# Altium footprint library Lib.PcbLib: 35 footprints (part 1 of 3)
Each footprint in its own frame and in the unit in brackets; x right, y up, seen from the top. Pads: shape width x height; smd on the part's side, far side on the other; paste and mask are expansions set on the pad; w line width, h text height; cw(c..) or ccw(c..) is an arc to the next point about the centre after c.
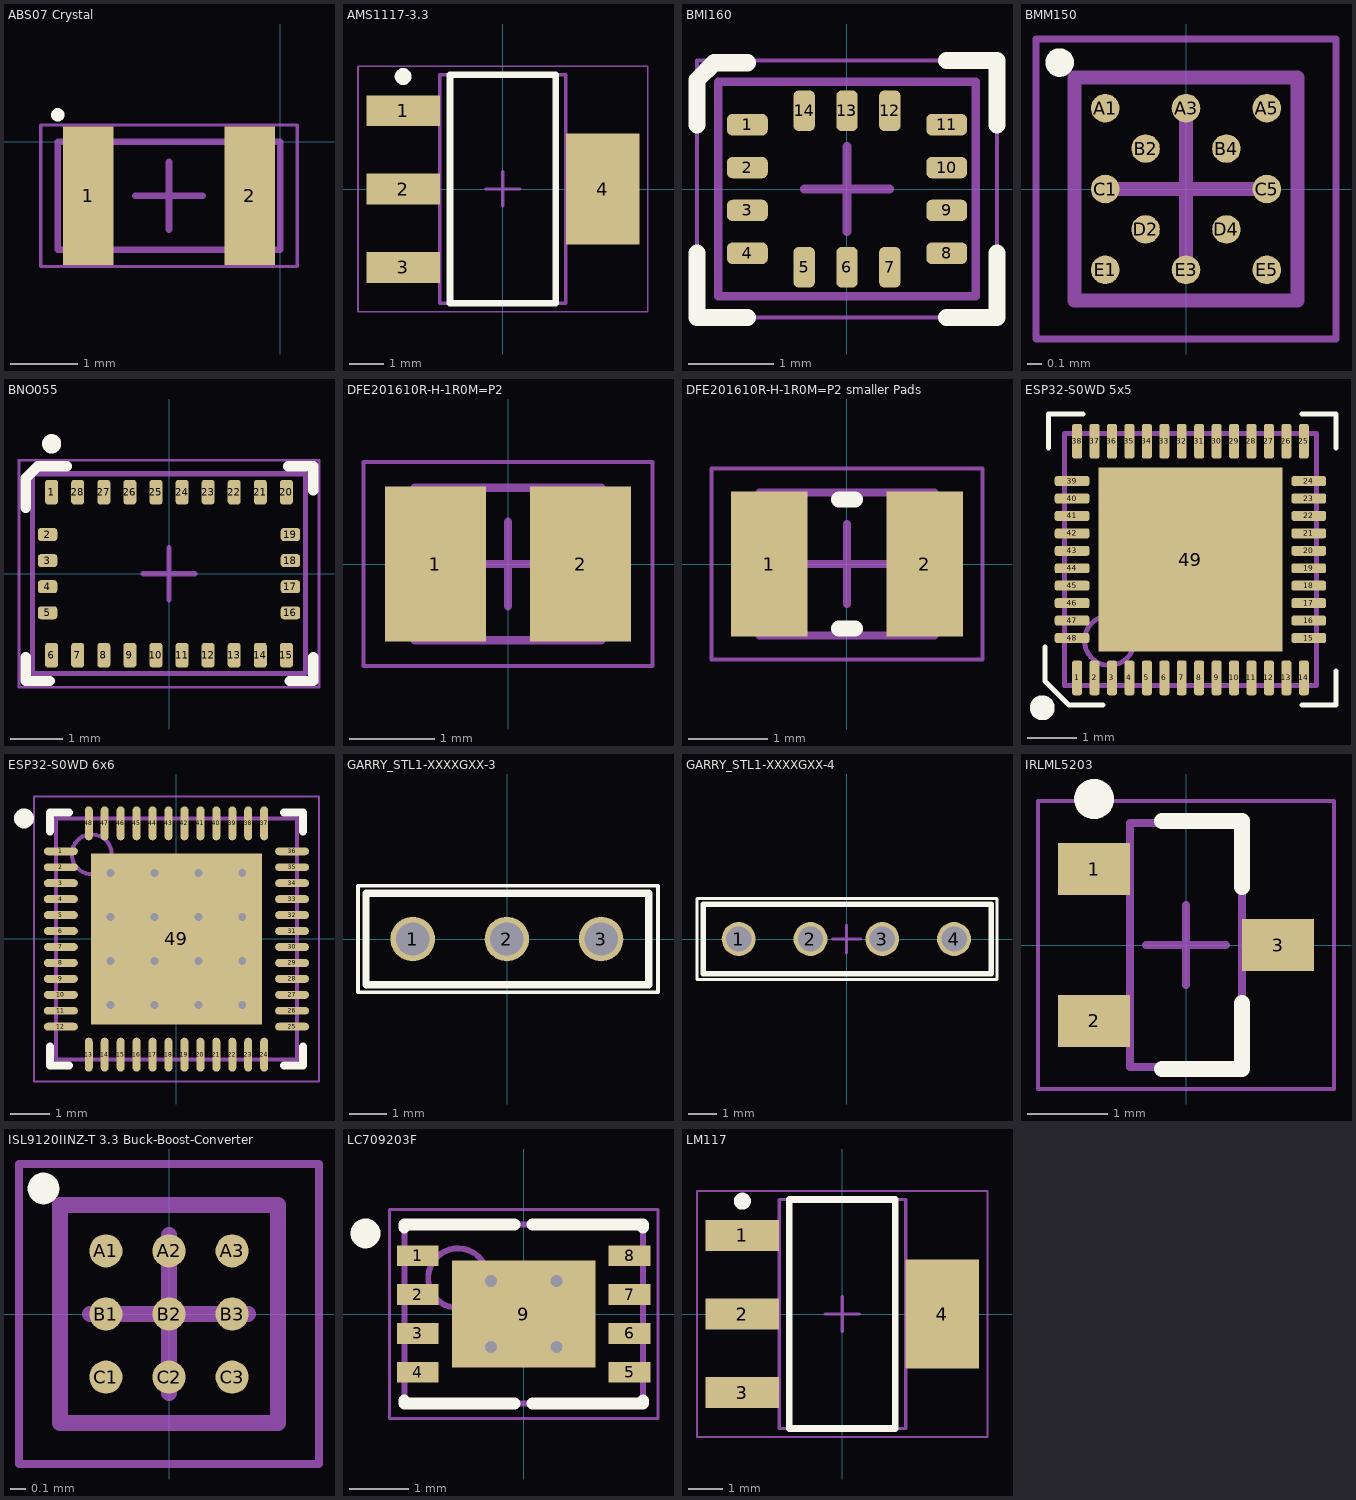
[diagram p0: the footprints below, top view; thin cyan lines are the x and y axes]

## ABS07 Crystal [mm] "32.768kHz SMD LOW PROFILE CRYSTA"
height 0.9
pads (2):
  rect 0.75x2.05 smd: 1(-2.85,-0.8) 2(-0.45,-0.8)
Top Overlay:
  circle w0.1: c-3.3,0.4 r0.05
Mechanical 13:
  lines w0.1: -3.3,-1.6 -3.3,0 0,0 0,-1.6 -3.3,-1.6
Mechanical 15:
  lines w0.05: -3.55,-1.85 -3.55,0.25 0.25,0.25 0.25,-1.85 -3.55,-1.85
  lines w0.1: -2.15,-0.8 -1.15,-0.8 ; -1.65,-1.3 -1.65,-0.3
3D body: height 0.9, standoff 0, extent -3.3,-1.6 0,0

## AMS1117-3.3 [mm] "SOT223, 4-Leads, Body 6,50x7,00mm (avg), Pitch 2,30mm, IPC Medium Density"
height 1.8
pads (4):
  rect 2.15x0.9 smd: 1(-2.925,2.3) 2(-2.925,0) 3(-2.925,-2.3)
  rect 2.15x3.25 smd: 4(2.925,0)
Top Overlay:
  circle w0.25: c-2.925,3.3 r0.125
  lines w0.2: -1.55,-3.35 1.55,-3.35 1.55,3.35 -1.55,3.35 -1.55,-3.35
Mechanical 13:
  lines w0.1: -1.85,-3.35 1.85,-3.35 1.85,3.35 -1.85,3.35 -1.85,-3.35
Mechanical 15:
  lines w0.05: -4.25,-3.6 4.25,-3.6 4.25,3.6 -4.25,3.6 -4.25,-3.6
  lines w0.1: -0.5,0 0.5,0 ; 0,-0.5 0,0.5
3D body: height 1.8, standoff 0.02, extent -1.85,-3.35 1.85,3.35

## BMI160 [mm] "LGA, 14-Leads, Body 3,00x2,50mmx0,83mm, Pitch 0,50mm"
height 0.83
pads (14):
  rrect50% 0.475x0.25 smd: 1(-1.162,0.75) 2(-1.162,0.25) 3(-1.162,-0.25) 4(-1.162,-0.75) 8(1.162,-0.75) 9(1.162,-0.25) 10(1.162,0.25) 11(1.162,0.75)
  rrect50% 0.25x0.475 smd: 5(-0.5,-0.913) 6(0,-0.913) 7(0.5,-0.913) 12(0.5,0.913) 13(0,0.913) 14(-0.5,0.913)
Top Overlay:
  lines w0.2: -1.75,-0.75 -1.75,-1.5 -1.162,-1.5 ; -1.75,0.75 -1.75,1.067 -1.75,1.25 -1.75,1.273 -1.549,1.473 -1.162,1.473 ; 1.162,-1.5 1.75,-1.5 1.75,-0.75 ; 1.162,1.5 1.75,1.5 1.75,0.75
Mechanical 13:
  lines w0.1: -1.5,-1.25 1.5,-1.25 1.5,1.25 -1.5,1.25 -1.5,-1.25
Mechanical 15:
  lines w0.05: -1.75,-1.5 1.75,-1.5 1.75,1.5 -1.75,1.5 -1.75,-1.5
  lines w0.1: -0.5,0 0.5,0 ; 0,-0.5 0,0.5
3D body: height 0.83, standoff 0.13, extent -1.5,-1.25 1.5,1.25

## BMM150 [mm] "Geomagnetic Sensor, BGA, 25-Leads, Body 1,56x1,56mmx0,60mm, Pitch 0,28mm"
height 0.6
pads (12):
  round 0.2 smd: A1(-0.566,0.566) A3(0,0.566) A5(0.566,0.566) B2(-0.283,0.283) B4(0.283,0.283) C1(-0.566,0) C5(0.566,0) D2(-0.283,-0.283) D4(0.283,-0.283) E1(-0.566,-0.566) E3(0,-0.566) E5(0.566,-0.566)
Top Overlay:
  circle w0.1: c-0.885,0.885 r0.05
Mechanical 13:
  lines w0.1: -0.78,-0.78 0.78,-0.78 0.78,0.78 -0.78,0.78 -0.78,-0.78
Mechanical 15:
  lines w0.05: -1.05,-1.05 1.05,-1.05 1.05,1.05 -1.05,1.05 -1.05,-1.05
  lines w0.1: -0.5,0 0.5,0 ; 0,-0.5 0,0.5
3D body: height 0.6, standoff 0.2, extent -0.78,-0.78 0.78,0.78

## BNO055 [mm] "LGA, 28-Leads, Body 5,22x3,83mmx1,18mm, Pitch 0,50mm"
height 1.18
pads (28):
  rrect50% 0.25x0.475 smd: 1(-2.25,1.562) 6(-2.25,-1.562) 7(-1.75,-1.562) 8(-1.25,-1.562) 9(-0.75,-1.562) 10(-0.25,-1.562) 11(0.25,-1.562) 12(0.75,-1.562) 13(1.25,-1.562) 14(1.75,-1.562) 15(2.25,-1.562) 20(2.25,1.562) 21(1.75,1.562) 22(1.25,1.562) 23(0.75,1.562) 24(0.25,1.562) 25(-0.25,1.562) 26(-0.75,1.562) 27(-1.25,1.562) 28(-1.75,1.562)
  rrect50% 0.375x0.25 smd: 2(-2.328,0.75) 3(-2.328,0.25) 4(-2.328,-0.25) 5(-2.328,-0.75) 16(2.328,-0.75) 17(2.328,-0.25) 18(2.328,0.25) 19(2.328,0.75)
Top Overlay:
  circle w0.254: c-2.25,2.489 r0.057
  lines w0.2: -2.743,-1.602 -2.743,-2.057 -2.288,-2.057 ; -2.743,1.261 -2.743,1.716 ; -2.743,1.602 -2.743,1.829 -2.515,2.057 -2.288,2.057 ; -2.413,2.057 -1.958,2.057 ; 2.288,2.057 2.769,2.057 2.769,1.602 ; 2.314,-2.057 2.769,-2.057 2.769,-1.602
Mechanical 13:
  lines w0.1: -2.615,-1.915 -2.615,1.915 2.615,1.915 2.615,-1.915 -2.615,-1.915
Mechanical 15:
  lines w0.05: -2.875,-2.175 -2.875,2.175 2.875,2.175 2.875,-2.175 -2.875,-2.175
  lines w0.1: -0.5,0 0.5,0 ; 0,-0.5 0,0.5
3D body: height 1.18, standoff 0.13, extent -2.615,-1.915 2.615,1.915

## DFE201610R-H-1R0M=P2 [mm] "Chip Inductor, 2-Leads, Body 2,00x1,60mm, IPC Medium Density"
height 1
pads (2):
  rect 1.19x1.82 smd: 1(-0.855,0) 2(0.855,0)
Mechanical 13:
  lines w0.1: -1.1,-0.9 -1.1,0.9 1.1,0.9 1.1,-0.9 -1.1,-0.9
Mechanical 15:
  lines w0.05: -1.7,-1.2 -1.7,1.2 1.7,1.2 1.7,-1.2 -1.7,-1.2
  lines w0.1: -0.5,0 0.5,0 ; 0,-0.5 0,0.5
3D body: height 1, standoff 0, extent -0.6,-0.9 0.6,0.9
3D body: height 1, standoff 0, extent -1.1,-0.9 -0.6,0.9
3D body: height 1, standoff 0, extent 0.6,-0.9 1.1,0.9

## DFE201610R-H-1R0M=P2 smaller Pads [mm] "Chip Inductor, 2-Leads, Body 2,00x1,60mm, IPC Medium Density"
height 1
pads (2):
  rect 0.96x1.82 smd: 1(-0.975,0) 2(0.975,0)
Top Overlay:
  lines w0.2: -0.1,-0.81 0.1,-0.81 ; -0.1,0.81 0.1,0.81
Mechanical 13:
  lines w0.1: -1.1,-0.9 1.1,-0.9 1.1,0.9 -1.1,0.9 -1.1,-0.9
Mechanical 15:
  lines w0.05: -1.7,-1.2 1.7,-1.2 1.7,1.2 -1.7,1.2 -1.7,-1.2
  lines w0.1: -0.5,0 0.5,0 ; 0,-0.5 0,0.5
3D body: height 1, standoff 0, extent 0.75,-0.9 1.1,0.9
3D body: height 1, standoff 0, extent -1.1,-0.9 -0.75,0.9
3D body: height 1, standoff 0, extent -0.75,-0.9 0.75,0.9

## ESP32-S0WD 5x5 [mm] "QFN, 48-Leads, Body 5,00x5,00mm, Pitch 0,35mm, Thermal Pad 3,70x3,70mm, IPC High Density"
height 0.35
pads (49):
  rrect50% 0.2x0.7 smd: 1(1245.246,1222.286) 2(1245.596,1222.286) 3(1245.946,1222.286) 4(1246.296,1222.286) 5(1246.646,1222.286) 6(1246.996,1222.286) 7(1247.346,1222.286) 8(1247.696,1222.286) 9(1248.046,1222.286) 10(1248.396,1222.286) 11(1248.746,1222.286) 12(1249.096,1222.286) 13(1249.446,1222.286) 14(1249.796,1222.286) 25(1249.796,1227.036) 26(1249.446,1227.036) 27(1249.096,1227.036) 28(1248.746,1227.036) 29(1248.396,1227.036) 30(1248.046,1227.036) 31(1247.696,1227.036) 32(1247.346,1227.036) 33(1246.996,1227.036) 34(1246.646,1227.036) 35(1246.296,1227.036) 36(1245.946,1227.036) 37(1245.596,1227.036) 38(1245.246,1227.036)
  rrect50% 0.7x0.2 smd: 15(1249.896,1223.086) 16(1249.896,1223.436) 17(1249.896,1223.786) 18(1249.896,1224.136) 19(1249.896,1224.486) 20(1249.896,1224.836) 21(1249.896,1225.186) 22(1249.896,1225.536) 23(1249.896,1225.886) 24(1249.896,1226.236) 39(1245.146,1226.236) 40(1245.146,1225.886) 41(1245.146,1225.536) 42(1245.146,1225.186) 43(1245.146,1224.836) 44(1245.146,1224.486) 45(1245.146,1224.136) 46(1245.146,1223.786) 47(1245.146,1223.436) 48(1245.146,1223.086)
  rect 3.7x3.7 smd: 49(1247.521,1224.661)
Top Overlay:
  circle w0.25: c1244.546,1221.686 r0.125
  lines w0.099: 1244.6,1222.908 1244.6,1222.223 1245.083,1221.74 1245.768,1221.74 ; 1244.671,1226.896 1244.671,1227.582 ; 1244.676,1227.582 1245.362,1227.582 ; 1249.756,1221.74 1250.442,1221.74 1250.442,1222.426 ; 1249.756,1227.582 1250.442,1227.582 1250.442,1226.896
Mechanical 13:
  circle w0.1: c1245.896,1223.036 r0.5
  lines w0.1: 1244.996,1222.136 1250.046,1222.136 1250.046,1227.186 1244.996,1227.186 1244.996,1222.136
3D body: height 0.9, standoff 0, extent 1244.996,1222.136 1250.046,1227.186

## ESP32-S0WD 6x6 [mm] "QFN, 48-Leads, Body 6,00x6,00mm, Pitch 0,40mm, Thermal Pad 4,30x4,30mm, IPC Medium Density"
height 0.9
pads (49):
  oval 0.85x0.2 smd: 1(-2.9,2.2) 2(-2.9,1.8) 3(-2.9,1.4) 4(-2.9,1) 5(-2.9,0.6) 6(-2.9,0.2) 7(-2.9,-0.2) 8(-2.9,-0.6) 9(-2.9,-1) 10(-2.9,-1.4) 11(-2.9,-1.8) 12(-2.9,-2.2) 25(2.9,-2.2) 26(2.9,-1.8) 27(2.9,-1.4) 28(2.9,-1) 29(2.9,-0.6) 30(2.9,-0.2) 31(2.9,0.2) 32(2.9,0.6) 33(2.9,1) 34(2.9,1.4) 35(2.9,1.8) 36(2.9,2.2)
  oval 0.2x0.85 smd: 13(-2.2,-2.9) 14(-1.8,-2.9) 15(-1.4,-2.9) 16(-1,-2.9) 17(-0.6,-2.9) 18(-0.2,-2.9) 19(0.2,-2.9) 20(0.6,-2.9) 21(1,-2.9) 22(1.4,-2.9) 23(1.8,-2.9) 24(2.2,-2.9) 37(2.2,2.9) 38(1.8,2.9) 39(1.4,2.9) 40(1,2.9) 41(0.6,2.9) 42(0.2,2.9) 43(-0.2,2.9) 44(-0.6,2.9) 45(-1,2.9) 46(-1.4,2.9) 47(-1.8,2.9) 48(-2.2,2.9)
  rect 4.3x4.3 smd: 49(0,0)
via 1.65,-1.65 diameter 0.5 hole 0.2
via 0.55,-1.65 diameter 0.5 hole 0.2
via -0.55,-1.65 diameter 0.5 hole 0.2
via -1.65,-1.65 diameter 0.5 hole 0.2
via 1.65,-0.55 diameter 0.5 hole 0.2
via 0.55,-0.55 diameter 0.5 hole 0.2
via -0.55,-0.55 diameter 0.5 hole 0.2
via -1.65,-0.55 diameter 0.5 hole 0.2
via 1.65,0.55 diameter 0.5 hole 0.2
via 0.55,0.55 diameter 0.5 hole 0.2
via -0.55,0.55 diameter 0.5 hole 0.2
via -1.65,0.55 diameter 0.5 hole 0.2
via 1.65,1.65 diameter 0.5 hole 0.2
via 0.55,1.65 diameter 0.5 hole 0.2
via -0.55,1.65 diameter 0.5 hole 0.2
via -1.65,1.65 diameter 0.5 hole 0.2
Top Overlay:
  circle w0.25: c-3.825,3.025 r0.125
  lines w0.2: -3.175,-2.7 -3.175,-3.175 -2.7,-3.175 ; -3.175,2.7 -3.175,3.175 -2.7,3.175 ; 2.7,-3.175 3.175,-3.175 3.175,-2.7 ; 2.7,3.175 3.175,3.175 3.175,2.7
Mechanical 13:
  circle w0.1: c-2.125,2.125 r0.5
  lines w0.1: -3.025,-3.025 3.025,-3.025 3.025,3.025 -3.025,3.025 -3.025,-3.025
Mechanical 15:
  lines w0.05: -3.575,-3.575 3.575,-3.575 3.575,3.575 -3.575,3.575 -3.575,-3.575
  lines w0.1: -0.5,0 0.5,0 ; 0,-0.5 0,0.5
3D body: height 0.9, standoff 0.05, extent -3.025,-3.025 3.025,3.025

## GARRY_STL1-XXXXGXX-3 [mm]
pads (3):
  round 1.2 hole 0.9: 1(-2.555,0) 2(-0.015,0) 3(2.525,0)
Top Overlay:
  lines w0.099: -4.03,1.435 -4.03,-1.435 4.059,-1.435 4.059,1.435 -4.005,1.435
  lines w0.2: -3.815,-1.23 3.805,-1.23 3.805,1.23 -3.815,1.23 ; -3.815,-1.195 -3.815,1.23 ; -3.565,1.23 -3.815,1.23 ; -1.565,1.23 -1.015,1.23
Mechanical 15:
  lines w0.1: -0.505,0 0.495,0 ; -0.005,-0.5 -0.005,0.5
3D body: height 2.5, standoff 0, extent -3.805,-1.23 3.805,1.23
3D body: height 10.2, standoff -2.5, extent 2.2,-0.32 2.85,0.33
3D body: height 10.2, standoff -2.5, extent -0.34,-0.32 0.31,0.33
3D body: height 10.2, standoff -2.5, extent -2.88,-0.32 -2.23,0.33

## GARRY_STL1-XXXXGXX-4 [mm]
pads (4):
  round 1.2 hole 0.9: 1(-3.82,0) 2(-1.28,0) 3(1.26,0) 4(3.8,0)
Top Overlay:
  lines w0.099: -5.295,1.435 -5.295,-1.435 5.32,-1.435 5.32,1.435 -5.27,1.435
  lines w0.2: -5.08,-1.23 5.12,-1.23 5.12,1.23 -5.08,1.23 ; -5.08,-1.195 -5.08,1.23 ; -4.83,1.23 -5.08,1.23 ; -2.83,1.23 -2.28,1.23
Mechanical 15:
  lines w0.1: -0.5,0 0.5,0 ; 0,-0.5 0,0.5
3D body: height 2.5, standoff 0, extent -5.07,-1.23 5.12,1.23
3D body: height 10.2, standoff -2.5, extent 3.475,-0.32 4.125,0.33
3D body: height 10.2, standoff -2.5, extent 0.935,-0.32 1.585,0.33
3D body: height 10.2, standoff -2.5, extent -1.605,-0.32 -0.955,0.33
3D body: height 10.2, standoff -2.5, extent -4.145,-0.32 -3.495,0.33

## ID Library Ref Description  9561 USB-MICRO-AB Micro USB 2.0 AB connector [mm]

## IRLML5203 [mm] "Power MOSFET P-Channel"
height 1.11
pads (3):
  rect 0.9x0.65 smd: 1(-1.15,0.95) 2(-1.15,-0.95) 3(1.15,0)
Top Overlay:
  circle w0.25: c-1.15,1.825 r0.125
  lines w0.2: -0.3,-1.55 0.7,-1.55 0.7,-0.725 ; -0.3,1.55 0.7,1.55 0.7,0.725
Mechanical 13:
  lines w0.1: -0.7,-1.525 0.7,-1.525 0.7,1.525 -0.7,1.525 -0.7,-1.525
Mechanical 15:
  lines w0.05: -1.85,-1.8 1.85,-1.8 1.85,1.8 -1.85,1.8 -1.85,-1.8
  lines w0.1: -0.5,0 0.5,0 ; 0,-0.5 0,0.5
3D body: height 1.11, standoff 0.1, extent -0.7,-1.525 0.7,1.525

## ISL9120IINZ-T 3.3 Buck-Boost-Converter [mm] "BGA, 9-Leads, Body 1,38x1,38mmx0,50mm, Pitch 0,40mm"
height 0.5
pads (9):
  round 0.21 smd: A1(-0.4,0.4) A2(0,0.4) A3(0.4,0.4) B1(-0.4,0) B2(0,0) B3(0.4,0) C1(-0.4,-0.4) C2(0,-0.4) C3(0.4,-0.4)
Top Overlay:
  circle w0.1: c-0.795,0.795 r0.05
Mechanical 13:
  lines w0.1: -0.69,-0.69 0.69,-0.69 0.69,0.69 -0.69,0.69 -0.69,-0.69
Mechanical 15:
  lines w0.05: -0.95,-0.95 0.95,-0.95 0.95,0.95 -0.95,0.95 -0.95,-0.95
  lines w0.1: -0.5,0 0.5,0 ; 0,-0.5 0,0.5
3D body: height 0.5, standoff 0.2, extent -0.69,-0.69 0.69,0.69

## LC709203F [mm] "PQFN, 8-Leads, Body 4,00x3,00mm, Pitch 0,65mm, Thermal Pad 2,40x1,80mm, IPC Medium Density"
height 0.8
pads (9):
  rect 0.7x0.35 smd: 1(-1.775,0.975) 2(-1.775,0.325) 3(-1.775,-0.325) 4(-1.775,-0.975) 5(1.775,-0.975) 6(1.775,-0.325) 7(1.775,0.325) 8(1.775,0.975)
  rect 2.4x1.8 smd: 9(0,0)
via 0.55,-0.55 diameter 0.5 hole 0.2
via -0.55,-0.55 diameter 0.5 hole 0.2
via 0.55,0.55 diameter 0.5 hole 0.2
via -0.55,0.55 diameter 0.5 hole 0.2
Top Overlay:
  circle w0.25: c-2.65,1.35 r0.125
  lines w0.2: -2,-1.45 -2,-1.5 -0.15,-1.5 ; -2,1.45 -2,1.5 -0.15,1.5 ; 0.15,-1.5 2,-1.5 2,-1.45 ; 0.15,1.5 2,1.5 2,1.45
Mechanical 13:
  circle w0.1: c-1.1,0.6 r0.5
  lines w0.1: -2,-1.5 2,-1.5 2,1.5 -2,1.5 -2,-1.5
Mechanical 15:
  lines w0.05: -2.25,-1.75 2.25,-1.75 2.25,1.75 -2.25,1.75 -2.25,-1.75
  lines w0.1: -0.5,0 0.5,0 ; 0,-0.5 0,0.5
3D body: height 0.8, standoff 0.05, extent -2,-1.5 2,1.5

## LM117 [mm] "SOT223, 4-Leads, Body 6,50x7,00mm (avg), Pitch 2,30mm, IPC Medium Density"
height 1.8
pads (4):
  rect 2.15x0.9 smd: 1(-2.925,2.3) 2(-2.925,0) 3(-2.925,-2.3)
  rect 2.15x3.2 smd: 4(2.925,0)
Top Overlay:
  circle w0.25: c-2.925,3.3 r0.125
  lines w0.2: -1.55,-3.35 1.55,-3.35 1.55,3.35 -1.55,3.35 -1.55,-3.35
Mechanical 13:
  lines w0.1: -1.85,-3.35 1.85,-3.35 1.85,3.35 -1.85,3.35 -1.85,-3.35
Mechanical 15:
  lines w0.05: -4.25,-3.6 4.25,-3.6 4.25,3.6 -4.25,3.6 -4.25,-3.6
  lines w0.1: -0.5,0 0.5,0 ; 0,-0.5 0,0.5
3D body: height 1.8, standoff 0.02, extent -1.85,-3.35 1.85,3.35